# EAGLE library part ECC83 (library Tube)
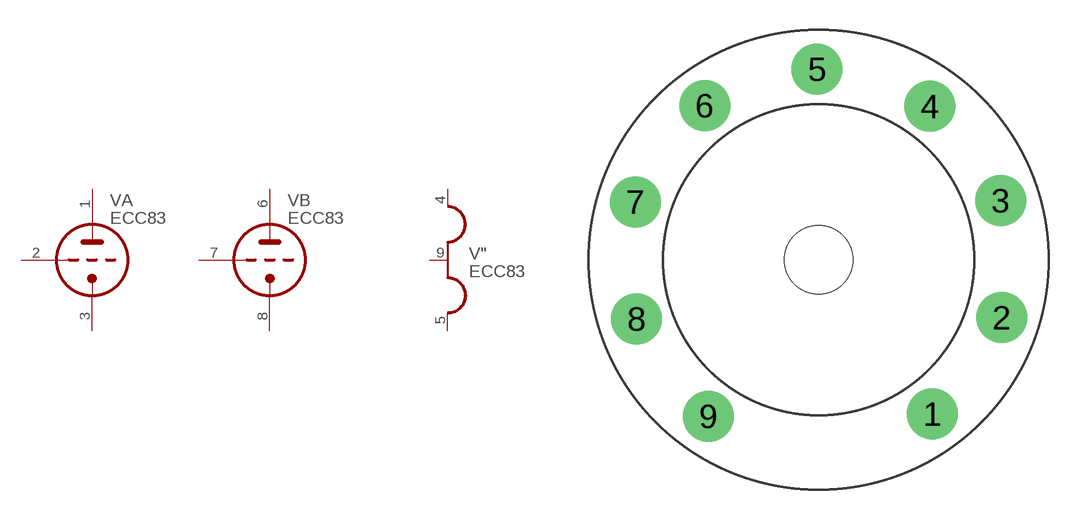
[diagram p1: symbol with the pads of ECC83; footprint ECC83]

Designator prefix V; gates A=TRIODE B=TRIODE "=HEATER_DOUBLE

## ECC83-P  [ECC83]
1  A:TA  pas
2  A:TG  pas
3  A:TK  pas
4  ":H1  pas
5  ":H3  pas
6  B:TA  pas
7  B:TG  pas
8  B:TK  pas
9  ":H2  pas

## Footprint ECC83 (pad centres in mm)
drill 1.422 pad 2.54 round: 1 5.665,-7.674; 2 9.115,-2.881; 3 9.059,2.943; 4 5.53,7.639; 5 -0.079,9.489; 6 -5.665,7.674; 7 -9.115,2.881; 8 -9.059,-2.943; 9 -5.481,-7.79
hole 3.404 at 0,0